# Altium footprint library ic.PcbLib: 38 footprints (part 1 of 3)
Each footprint in its own frame and in the unit in brackets; x right, y up, seen from the top. Pads: shape width x height; smd on the part's side, far side on the other; paste and mask are expansions set on the pad; w line width, h text height; cw(c..) or ccw(c..) is an arc to the next point about the centre after c.
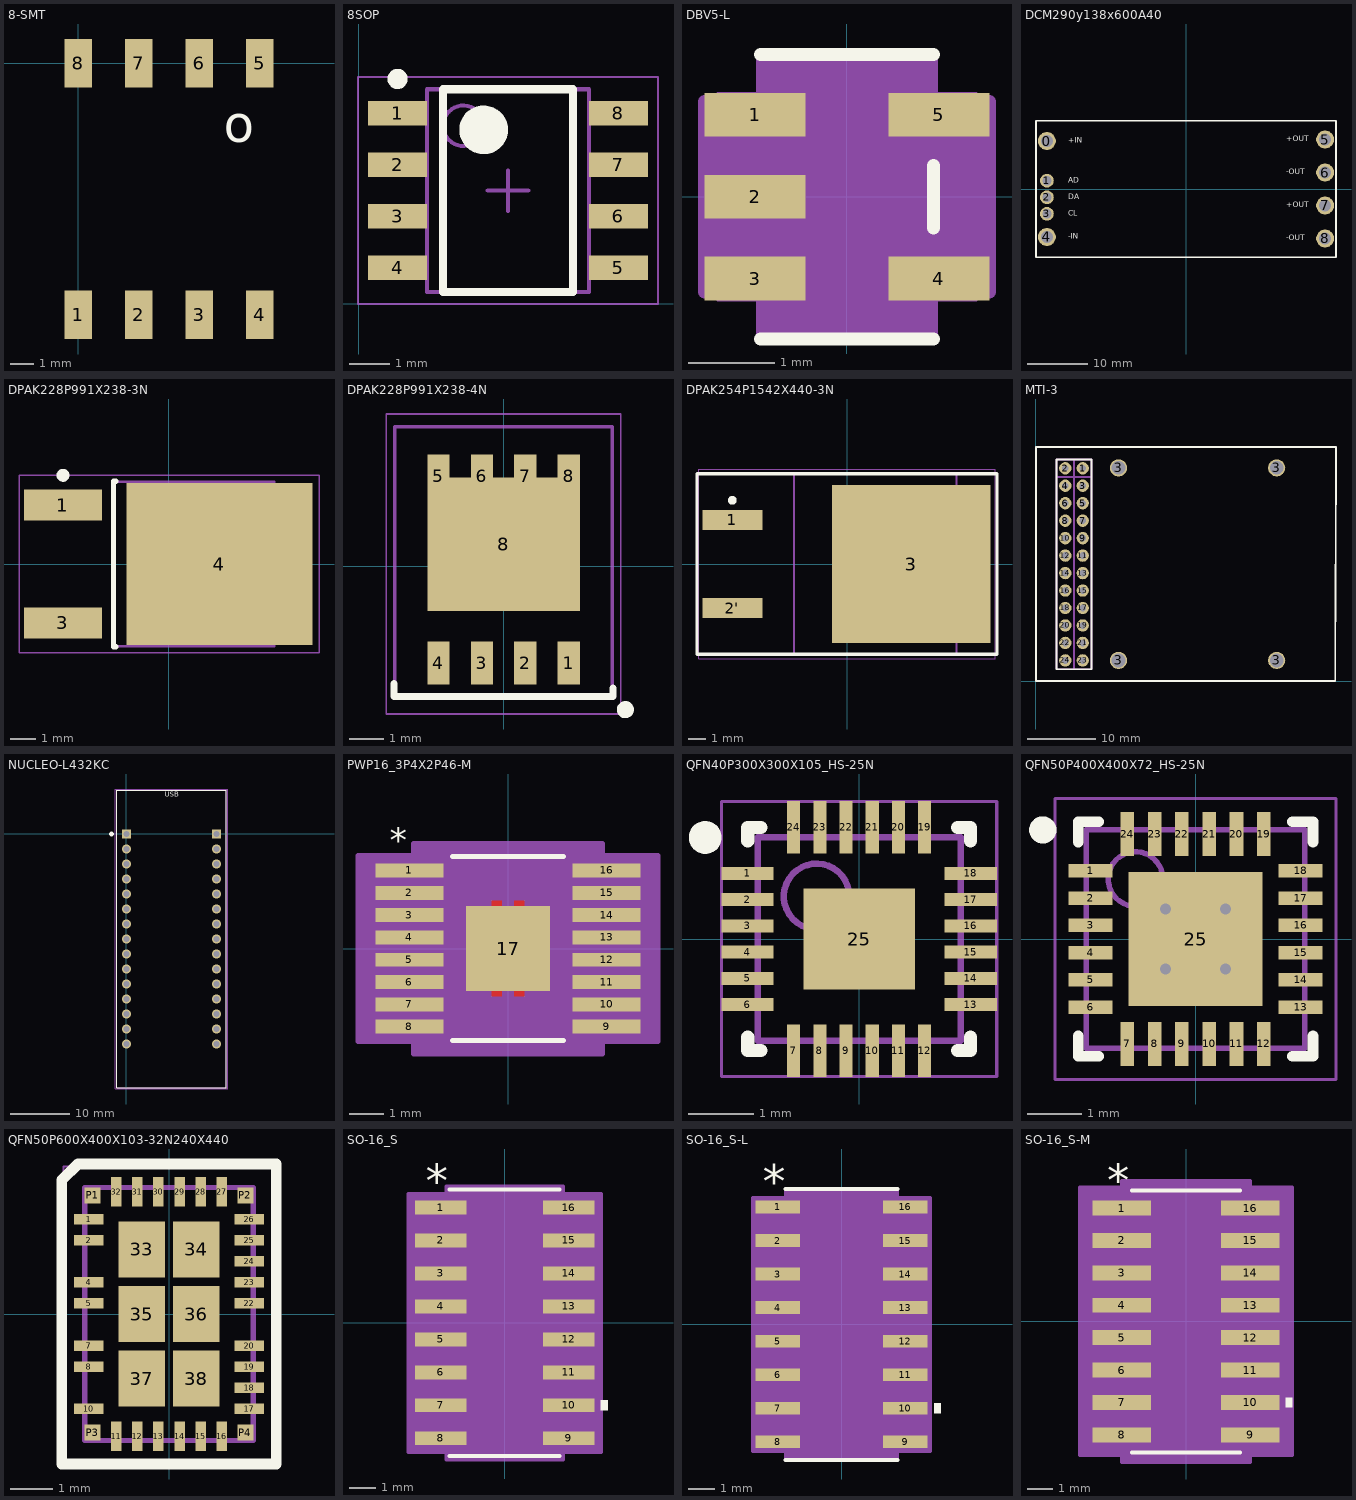
[diagram p0: the footprints below, top view; thin cyan lines are the x and y axes]

## 8-SMT [mm]
height 5.44
pads (8):
  rect 1.15x2.04 smd: 1(0,-10.54) 2(2.54,-10.54) 3(5.08,-10.54) 4(7.62,-10.54) 5(7.62,0) 6(5.08,0) 7(2.54,0) 8(0,0)
Top Overlay:
  text "o" at 6.1,-3.3 h1.52
3D body "P3EL-P-008-I2CPressureSensorPCBONLY.prt.stp": height 5.44, standoff 0, extent -1.353,-12 8.553,1.462

## 8SOP [mm]
pads (8):
  rect 1.45x0.6 smd: 1(0.958,4.699) 2(0.958,3.429) 3(0.958,2.159) 4(0.958,0.889) 5(6.408,0.889) 6(6.408,2.159) 7(6.408,3.429) 8(6.408,4.699)
Top Overlay:
  circle w0.25: c0.958,5.549 r0.125
  circle w0.6: c3.083,4.294 r0.3
  lines w0.2: 2.083,0.294 2.083,5.294 5.283,5.294 5.283,0.294 2.083,0.294
Mechanical 13:
  circle w0.1: c2.583,4.394 r0.5
  lines w0.1: 1.683,0.294 1.683,5.294 5.683,5.294 5.683,0.294 1.683,0.294
Mechanical 15:
  lines w0.05: -0.017,-0.006 -0.017,5.594 7.383,5.594 7.383,-0.006 -0.017,-0.006
  lines w0.1: 3.183,2.794 4.183,2.794 ; 3.683,2.294 3.683,3.294
3D body "SOP127P600X175_HS-9N.step": height 1.75, standoff 0, extent 0.689,0.294 6.677,5.294

## DBV5-L [mil]
pads (5):
  rect 46x20 smd paste+0 mask+0: 1(-42,37.4) 2(-42,0) 3(-42,-37.4) 4(42,-37.4) 5(42,37.4)
Top Overlay:
  lines w6: -39.5,-65 39.5,-65 ; -39.5,65 39.5,65 ; 39.5,-14.3 39.5,14.3
Mechanical 13:
  lines w0: -12,60 ccw(c0,60) 12,60
  lines w1: -59,-47.4 -34.5,-47.4 -34.5,-27.4 -59,-27.4 -59,-47.4 ; -59,-10 -34.5,-10 -34.5,10 -59,10 -59,-10 ; -59,27.4 -34.5,27.4 -34.5,47.4 -59,47.4 -59,27.4 ; -34.5,-60 -34.5,60 34.5,60 34.5,-60 -34.5,-60 ; 34.5,-47.4 59,-47.4 59,-27.4 34.5,-27.4 34.5,-47.4 ; 34.5,27.4 59,27.4 59,47.4 34.5,47.4 34.5,27.4
  text "*" at -37,14.4 h50
Mechanical 15:
  region: 38.5,-64 -38.5,-64 -38.5,-43.4 -65,-43.4 -65,43.4 -38.5,43.4 -38.5,64 38.5,64 38.5,43.4 65,43.4 65,-43.4 38.5,-43.4
  lines w6: -65,-43.4 -65,43.4 -38.5,43.4 -38.5,64 38.5,64 38.5,43.4 65,43.4 65,-43.4 38.5,-43.4 38.5,-64 -38.5,-64 -38.5,-43.4 -65,-43.4
3D body: height 10, standoff 0, extent 0,0 10,10
3D body "DBV5-L.stp": height 57.09, standoff 0, extent -59.01,-59.99 59.02,60.01

## DCM290y138x600A40 [mm]
pads (9):
  round 3 hole 2.03: 0(-23.19,8) 4(-23.19,-8) 5(23.19,8.25) 6(23.19,2.75) 7(23.19,-2.75) 8(23.19,-8.25)
  round 2.3 hole 1.52: 1(-23.19,1.38) 2(-23.19,-1.38) 3(-23.19,-4.13)
Top Overlay:
  lines w0.254: -25,-11.4 25,-11.4 25,11.4 -25,11.4 -25,-11.4
  text "+IN" at -19.66,7.339 h1.52
  text "AD" at -19.66,0.719 h1.52
  text "DA" at -19.66,-2.041 h1.52
  text "CL" at -19.66,-4.791 h1.52
  text "-IN" at -19.66,-8.661 h1.52
  text "-OUT" at 16.739,-8.911 h1.52
  text "+OUT" at 16.739,-3.411 h1.52
  text "-OUT" at 16.739,2.089 h1.52
  text "+OUT" at 16.739,7.589 h1.52
3D body: height 8.16, standoff 0, extent -25.019,-11.405 25.019,11.43

## DPAK228P991X238-3N [mm] "D-PAK, 3-Pads, Body 6.21x6.54mm (max), IPC Medium Density"
height 2.38
pads (3):
  rect 3x1.2 smd: 1(-4.1,2.28) 3(-4.1,-2.28)
  rect 7.2x6.25 smd: 4(1.95,0)
Top Overlay:
  circle w0.25: c-4.1,3.43 r0.125
  lines w0.2: -2.05,-3.2 -2.15,-3.2 -2.15,3.2 -2.05,3.2
Mechanical 13:
  lines w0.1: -2.15,-3.175 4.07,-3.175 4.07,3.175 -2.15,3.175 -2.15,-3.175
Mechanical 15:
  lines w0.05: -5.8,-3.425 5.8,-3.425 5.8,3.425 -5.8,3.425 -5.8,-3.425
  lines w0.1: -0.5,0 0.5,0 ; 0,-0.5 0,0.5
3D body "DPAK228P991X238-3N.step": height 2.51, standoff 0, extent -4.826,-3.175 5.079,3.175

## DPAK228P991X238-4N [mm] "D-PAK, 4-Pads, Body 6.21x6.54mm (max), IPC Medium Density"
height 2.38
pads (9):
  rect 0.65x1.25 smd: 1(1.905,-2.83) 2(0.635,-2.83) 3(-0.635,-2.83) 4(-1.905,-2.83) 5(-1.905,2.631) 6(-0.635,2.631) 7(0.635,2.631) 8(1.905,2.631)
  rect 4.45x3.9 smd: 8(0,0.635)
Top Overlay:
  circle w0.25: c3.556,-4.191 r0.125
  lines w0.2: -3.2,-3.429 -3.2,-3.81 3.2,-3.81 3.2,-3.556
Mechanical 13:
  lines w0.1: -3.175,-3.81 -3.175,4.07 3.175,4.07 3.175,-3.81 -3.175,-3.81
Mechanical 15:
  lines w0.05: -3.425,-4.318 -3.425,4.445 3.425,4.445 3.425,-4.318 -3.425,-4.318
  lines w0.1: -0.5,0 0.5,0 ; 0,-0.5 0,0.5
3D body: height 1.45, standoff 0, extent -2.286,-2.794 2.286,2.921

## DPAK254P1542X440-3N [mm] "D2-PAK, 3-Pads, Body 7.78x8.56mm (max), IPC Medium Density"
height 4.4
pads (3):
  rect 3.45x1.15 smd: 1(-6.6,2.54) 2'(-6.6,-2.54)
  rect 9.1x9.1 smd: 3(3.7,0)
Top Overlay:
  circle w0.25: c-6.6,3.665 r0.125
  lines w0.2: -8.636,-5.2 8.636,-5.2 8.636,5.2 -8.636,5.2 -8.636,-5.2
Mechanical 13:
  lines w0.1: -3.05,-5.2 6.3,-5.2 6.3,5.2 -3.05,5.2 -3.05,-5.2
Mechanical 15:
  lines w0.05: -8.525,-5.45 8.525,-5.45 8.525,5.45 -8.525,5.45 -8.525,-5.45
  lines w0.1: -0.5,0 0.5,0 ; 0,-0.5 0,0.5
3D body "DPAK254P1542X440-3N.step": height 4.4, standoff 0, extent -7.275,-5.2 8.15,5.2

## MTI-3 [mm] "PinHeader 2x12 TH Pitch 2.54mm"
height 9.5
pads (28):
  round 1.8 hole 1: 1(6.858,30.988) 2(4.318,30.988) 3(6.858,28.448) 4(4.318,28.448) 5(6.858,25.908) 6(4.318,25.908) 7(6.858,23.368) 8(4.318,23.368) 9(6.858,20.828) 10(4.318,20.828) 11(6.858,18.288) 12(4.318,18.288) 13(6.858,15.748) 14(4.318,15.748) 15(6.858,13.208) 16(4.318,13.208) 17(6.858,10.668) 18(4.318,10.668) 19(6.858,8.128) 20(4.318,8.128) 21(6.858,5.588) 22(4.318,5.588) 23(6.858,3.048) 24(4.318,3.048)
  round 2.5 hole 2: 3(12.061,3.048) 3(12.061,31.048) 3(35.061,3.048) 3(35.061,31.048)
Top Overlay:
  lines w0.254: 0.061,34.048 0.061,0.048 43.561,0.048 ; 0.061,34.084 43.688,34.084 43.562,0.084 ; 3.048,29.718 3.048,32.258 ; 3.048,32.258 5.588,32.258 8.128,32.258 8.128,1.778 5.588,1.778 3.048,1.778 3.048,32.258
Mechanical 3:
  lines w0.254: 8.128,29.718 5.588,29.718 ; 3.048,32.258 3.048,29.718 5.588,29.718 ; 3.048,32.258 5.588,32.258 ; 3.048,32.258 3.048,1.778 5.588,1.778 ; 5.588,1.778 5.588,32.258 ; 5.588,1.778 5.588,32.258 ; 5.588,1.778 8.128,1.778 8.128,32.258 5.588,32.258 ; 5.588,29.718 5.588,32.258
3D body "Pin Header 1x12 TH Pitch 2.54mm.stp": height 9.5, standoff -3.2, extent 3.048,1.778 5.588,32.258
3D body "Pin Header 1x12 TH Pitch 2.54mm.stp": height 9.5, standoff -3.2, extent 5.588,1.778 8.128,32.258

## NUCLEO-L432KC [mm]
pads (30):
  rect 1.53x1.53 hole 1.02: 3.1(0,0) 4.1(15.24,0)
  round 1.53 hole 1.02: 3.2(0,-2.54) 3.3(0,-5.08) 3.4(0,-7.62) 3.5(0,-10.16) 3.6(0,-12.7) 3.7(0,-15.24) 3.8(0,-17.78) 3.9(0,-20.32) 3.10(0,-22.86) 3.11(0,-25.4) 3.12(0,-27.94) 3.13(0,-30.48) 3.14(0,-33.02) 3.15(0,-35.56) 4.2(15.24,-2.54) 4.3(15.24,-5.08) 4.4(15.24,-7.62) 4.5(15.24,-10.16) 4.6(15.24,-12.7) 4.7(15.24,-15.24) 4.8(15.24,-17.78) 4.9(15.24,-20.32) 4.10(15.24,-22.86) 4.11(15.24,-25.4) 4.12(15.24,-27.94) 4.13(15.24,-30.48) 4.14(15.24,-33.02) 4.15(15.24,-35.56)
Top Overlay:
  circle w0.4: c-2.54,0 r0.2
  lines w0.127: -1.65,-42.925 16.89,-42.925 16.89,7.365 -1.65,7.365 -1.65,-42.925
  text "USB" at 6.477,5.969 h1.52
Mechanical 4:
  lines w0.127: -1.65,-42.925 16.89,-42.925 ; -1.65,-42.925 -1.65,7.365 ; -1.65,-42.925 16.89,-42.925 ; -1.65,-42.925 -1.65,7.365 ; -1.65,7.365 16.89,7.365 ; -1.65,7.365 16.89,7.365 ; 16.89,-42.925 16.89,7.365 ; 16.89,-42.925 16.89,7.365
Mechanical 16:
  lines w0.05: -1.9,-43.175 17.14,-43.175 17.14,7.615 -1.9,7.615 -1.9,-43.175
3D body "stm32_black_pill.STEP": height 6.96, standoff -6.05, extent -5.134,-47.161 19.866,10.839

## PWP16_3P4X2P46-M [mil]
pads (17):
  rect 78x16 smd paste+0 mask+0: 1(-113,89.57) 2(-113,63.98) 3(-113,38.39) 4(-113,12.8) 5(-113,-12.8) 6(-113,-38.39) 7(-113,-63.98) 8(-113,-89.57) 9(113,-89.57) 10(113,-63.98) 11(113,-38.39) 12(113,-12.8) 13(113,12.8) 14(113,38.39) 15(113,63.98) 16(113,89.57)
  rect 96.85x97.64 smd paste+0 mask+0: 17(0,0)
Top Layer:
  region: 18.7,-48.82 6.89,-48.82 6.89,-54.72 18.7,-54.72
  region: -18.7,-48.82 -6.89,-48.82 -6.89,-54.72 -18.7,-54.72
  region: -18.7,48.82 -6.89,48.82 -6.89,54.72 -18.7,54.72
  region: 18.7,48.82 6.89,48.82 6.89,54.72 18.7,54.72
  region: 0,-48.82
  region: 0,48.82
Top Overlay:
  lines w6: -63.57,-105.5 63.57,-105.5 ; -63.57,105.5 63.57,105.5
  text "*" at -135.5,100.57 h50
Top Paste:
  region: 48.43,48.82 -48.43,48.82 -48.43,-48.82 48.43,-48.82
Top Solder:
  region: 18.7,-48.82 6.89,-48.82 6.89,-54.72 18.7,-54.72
  region: -18.7,-48.82 -6.89,-48.82 -6.89,-54.72 -18.7,-54.72
  region: -18.7,48.82 -6.89,48.82 -6.89,54.72 -18.7,54.72
  region: 18.7,48.82 6.89,48.82 6.89,54.72 18.7,54.72
  region: 0,-48.82
  region: 0,48.82
Mechanical 13:
  lines w0: -12,100.5 ccw(c0,100.5) 12,100.5
  lines w1: -130,-95.57 -88.5,-95.57 -88.5,-83.57 -130,-83.57 -130,-95.57 ; -130,-69.98 -88.5,-69.98 -88.5,-57.98 -130,-57.98 -130,-69.98 ; -130,-44.39 -88.5,-44.39 -88.5,-32.39 -130,-32.39 -130,-44.39 ; -130,-18.8 -88.5,-18.8 -88.5,-6.8 -130,-6.8 -130,-18.8 ; -130,6.8 -88.5,6.8 -88.5,18.8 -130,18.8 -130,6.8 ; -130,32.39 -88.5,32.39 -88.5,44.39 -130,44.39 -130,32.39 ; -130,57.98 -88.5,57.98 -88.5,69.98 -130,69.98 -130,57.98 ; -130,83.57 -88.5,83.57 -88.5,95.57 -130,95.57 -130,83.57 ; -88.5,-100.5 -88.5,100.5 88.5,100.5 88.5,-100.5 -88.5,-100.5 ; 88.5,-95.57 130,-95.57 130,-83.57 88.5,-83.57 88.5,-95.57 ; 88.5,-69.98 130,-69.98 130,-57.98 88.5,-57.98 88.5,-69.98 ; 88.5,-44.39 130,-44.39 130,-32.39 88.5,-32.39 88.5,-44.39 ; 88.5,-18.8 130,-18.8 130,-6.8 88.5,-6.8 88.5,-18.8 ; 88.5,6.8 130,6.8 130,18.8 88.5,18.8 88.5,6.8 ; 88.5,32.39 130,32.39 130,44.39 88.5,44.39 88.5,32.39 ; 88.5,57.98 130,57.98 130,69.98 88.5,69.98 88.5,57.98 ; 88.5,83.57 130,83.57 130,95.57 88.5,95.57 88.5,83.57
  text "*" at -91,55.57 h50
Mechanical 15:
  region: -108.5,-106.36 -172,-106.36 -172,106.36 -108.5,106.36 -108.5,120.5 108.5,120.5 108.5,106.36 172,106.36 172,-106.36 108.5,-106.36 108.5,-120.5 -108.5,-120.5
  lines w6: -172,-106.36 -108.5,-106.36 -108.5,-120.5 108.5,-120.5 108.5,-106.36 172,-106.36 172,106.36 108.5,106.36 108.5,120.5 -108.5,120.5 -108.5,106.36 -172,106.36 -172,-106.36
3D body: height 10, standoff 0, extent 0,0 10,10
3D body "PWP16_3P4X2P46-M.stp": height 67.09, standoff 0, extent -129.99,-100.5 130.01,100.52

## QFN40P300X300X105_HS-25N [mm] "QFN, 24-Leads, Body 3.00x3.00mm, Pitch 0.40mm, Thermal Pad 1.70x1.54mm, IPC Medium Density"
height 1.05
pads (25):
  rect 0.8x0.2 smd: 1(-1.704,1) 2(-1.704,0.6) 3(-1.704,0.2) 4(-1.704,-0.2) 5(-1.704,-0.6) 6(-1.704,-1) 13(1.704,-1) 14(1.704,-0.6) 15(1.704,-0.2) 16(1.704,0.2) 17(1.704,0.6) 18(1.704,1)
  rect 0.2x0.8 smd: 7(-1,-1.704) 8(-0.6,-1.704) 9(-0.2,-1.704) 10(0.2,-1.704) 11(0.6,-1.704) 12(1,-1.704) 19(1,1.704) 20(0.6,1.704) 21(0.2,1.704) 22(-0.2,1.704) 23(-0.6,1.704) 24(-1,1.704)
  rect 1.7x1.54 smd: 25(0,0)
Top Overlay:
  circle w0.25: c-2.35,1.55 r0.125
  lines w0.2: -1.7,-1.5 -1.7,-1.7 -1.5,-1.7 ; -1.7,1.5 -1.7,1.7 -1.5,1.7 ; 1.5,-1.7 1.7,-1.7 1.7,-1.5 ; 1.5,1.7 1.7,1.7 1.7,1.5
Mechanical 13:
  circle w0.1: c-0.65,0.65 r0.5
  lines w0.1: -1.55,-1.55 -1.55,1.55 1.55,1.55 1.55,-1.55 -1.55,-1.55
Mechanical 15:
  lines w0.05: -2.1,-2.1 -2.1,2.1 2.1,2.1 2.1,-2.1 -2.1,-2.1
  lines w0.1: -0.5,0 0.5,0 ; 0,-0.5 0,0.5
3D body "QFN40P300X300X105_HS-25N.step": height 1.05, standoff 0, extent -1.79,-1.79 1.79,1.79

## QFN50P400X400X72_HS-25N [mm] "QFN, 24-Leads, Body 4.00x4.00mm, Pitch 0.50mm, Thermal Pad 2.45x2.45mm, IPC Medium Density"
height 0.72
pads (25):
  rect 0.8x0.25 smd: 1(-1.925,1.25) 2(-1.925,0.75) 3(-1.925,0.25) 4(-1.925,-0.25) 5(-1.925,-0.75) 6(-1.925,-1.25) 13(1.925,-1.25) 14(1.925,-0.75) 15(1.925,-0.25) 16(1.925,0.25) 17(1.925,0.75) 18(1.925,1.25)
  rect 0.25x0.8 smd: 7(-1.25,-1.925) 8(-0.75,-1.925) 9(-0.25,-1.925) 10(0.25,-1.925) 11(0.75,-1.925) 12(1.25,-1.925) 19(1.25,1.925) 20(0.75,1.925) 21(0.25,1.925) 22(-0.25,1.925) 23(-0.75,1.925) 24(-1.25,1.925)
  rect 2.45x2.45 smd: 25(0,0)
via 0.55,-0.55 diameter 0.5 hole 0.2
via -0.55,-0.55 diameter 0.5 hole 0.2
via 0.55,0.55 diameter 0.5 hole 0.2
via -0.55,0.55 diameter 0.5 hole 0.2
Top Overlay:
  circle w0.25: c-2.8,2 r0.125
  lines w0.2: -2.15,-1.775 -2.15,-2.15 -1.775,-2.15 ; -2.15,1.775 -2.15,2.15 -1.775,2.15 ; 1.775,-2.15 2.15,-2.15 2.15,-1.775 ; 1.775,2.15 2.15,2.15 2.15,1.775
Mechanical 13:
  circle w0.1: c-1.1,1.1 r0.5
  lines w0.1: -2,-2 2,-2 2,2 -2,2 -2,-2
Mechanical 15:
  lines w0.05: -2.575,-2.575 2.575,-2.575 2.575,2.575 -2.575,2.575 -2.575,-2.575
  lines w0.1: -0.5,0 0.5,0 ; 0,-0.5 0,0.5
3D body "QFN50P400X400X72_HS-25N.step": height 0.72, standoff 0, extent -2.24,-2.24 2.24,2.24

## QFN50P600X400X103-32N240X440 [mm]
pads (38):
  rect 0.7x0.25 smd: 1(-1.9,2.25) 2(-1.9,1.75) 4(-1.9,0.75) 5(-1.9,0.25) 7(-1.9,-0.75) 8(-1.9,-1.25) 10(-1.9,-2.25) 17(1.9,-2.25) 18(1.9,-1.75) 19(1.9,-1.25) 20(1.9,-0.75) 22(1.9,0.25) 23(1.9,0.75) 24(1.9,1.25) 25(1.9,1.75) 26(1.9,2.25)
  rect 0.25x0.7 smd: 11(-1.25,-2.9) 12(-0.75,-2.9) 13(-0.25,-2.9) 14(0.25,-2.9) 15(0.75,-2.9) 16(1.25,-2.9) 27(1.25,2.9) 28(0.75,2.9) 29(0.25,2.9) 30(-0.25,2.9) 31(-0.75,2.9) 32(-1.25,2.9)
  rect 1.1x1.33 smd: 33(-0.65,1.53) 34(0.65,1.53) 35(-0.65,0) 36(0.65,0) 37(-0.65,-1.53) 38(0.65,-1.53)
  rect 0.375x0.375 smd: P1(-1.813,2.812) P2(1.813,2.812) P3(-1.813,-2.812) P4(1.813,-2.812)
Top Overlay:
  lines w0.254: -2.54,-3.556 -2.54,3.175 -2.159,3.556 2.54,3.556 2.54,-3.556 -2.54,-3.556
Top Paste:
  region: -1.003,0.425 -0.3,0.425 -0.3,-0.426 -1.003,-0.426
  region: -1.004,1.955 -0.3,1.955 -0.3,1.109 -1.004,1.109
  region: -1.002,-1.105 -0.3,-1.105 -0.3,-1.96 -1.002,-1.96
  region: 0.3,0.425 1,0.425 1,-0.426 0.3,-0.426
  region: 0.301,1.955 1,1.955 1,1.109 0.301,1.109
  region: 0.3,-1.105 1,-1.105 1,-1.958 0.3,-1.958
Mechanical 1:
  lines w0.127: -2,-3 2,-3 2,3 -2,3 -2,-3
Mechanical 4:
  lines w0.05: -2.5,-3.5 2.5,-3.5 2.5,3.5 -2.5,3.5 -2.5,-3.5
3D body: height 0.94, standoff 0, extent -2,-3 2,3

## SO-16_S [mil]
pads (16):
  rect 78x21 smd paste+0 mask+0: 1(-97,175) 2(-97,125) 3(-97,75) 4(-97,25) 5(-97,-25) 6(-97,-75) 7(-97,-125) 8(-97,-175) 9(97,-175) 10(97,-125) 11(97,-75) 12(97,-25) 13(97,25) 14(97,75) 15(97,125) 16(97,175)
Top Overlay:
  region: 146,-117.5 156,-117.5 156,-132.5 146,-132.5
  lines w6: -83.5,-202 83.5,-202 ; -83.5,202 83.5,202
  text "*" at -119.5,191 h50
Mechanical 13:
  lines w0: -12,197 ccw(c0,197) 12,197
  lines w1: -122,-184.5 -122,-165.5 -78.5,-165.5 -78.5,-184.5 -122,-184.5 ; -122,-134.5 -122,-115.5 -78.5,-115.5 -78.5,-134.5 -122,-134.5 ; -122,-84.5 -122,-65.5 -78.5,-65.5 -78.5,-84.5 -122,-84.5 ; -122,-34.5 -122,-15.5 -78.5,-15.5 -78.5,-34.5 -122,-34.5 ; -122,15.5 -122,34.5 -78.5,34.5 -78.5,15.5 -122,15.5 ; -122,65.5 -122,84.5 -78.5,84.5 -78.5,65.5 -122,65.5 ; -122,115.5 -122,134.5 -78.5,134.5 -78.5,115.5 -122,115.5 ; -122,165.5 -122,184.5 -78.5,184.5 -78.5,165.5 -122,165.5 ; -78.5,-197 78.5,-197 78.5,197 -78.5,197 -78.5,-197 ; 78.5,-184.5 78.5,-165.5 122,-165.5 122,-184.5 78.5,-184.5 ; 78.5,-134.5 78.5,-115.5 122,-115.5 122,-134.5 78.5,-134.5 ; 78.5,-84.5 78.5,-65.5 122,-65.5 122,-84.5 78.5,-84.5 ; 78.5,-34.5 78.5,-15.5 122,-15.5 122,-34.5 78.5,-34.5 ; 78.5,15.5 78.5,34.5 122,34.5 122,15.5 78.5,15.5 ; 78.5,65.5 78.5,84.5 122,84.5 122,65.5 78.5,65.5 ; 78.5,115.5 78.5,134.5 122,134.5 122,115.5 78.5,115.5 ; 78.5,165.5 78.5,184.5 122,184.5 122,165.5 78.5,165.5
  text "*" at -76,144 h50
Mechanical 15:
  region: -88.5,-195.5 -146,-195.5 -146,195.5 -88.5,195.5 -88.5,207 88.5,207 88.5,195.5 146,195.5 146,-195.5 88.5,-195.5 88.5,-207 -88.5,-207
  lines w6: -146,-195.5 -146,195.5 -88.5,195.5 -88.5,207 88.5,207 88.5,195.5 146,195.5 146,-195.5 88.5,-195.5 88.5,-207 -88.5,-207 -88.5,-195.5 -146,-195.5
3D body: height 10, standoff 0, extent 0,0 10,10

## SO-16_S-L [mil]
pads (16):
  rect 66x19 smd paste+0 mask+0: 1(-95,175) 2(-95,125) 3(-95,75) 4(-95,25) 5(-95,-25) 6(-95,-75) 7(-95,-125) 8(-95,-175) 9(95,-175) 10(95,-125) 11(95,-75) 12(95,-25) 13(95,25) 14(95,75) 15(95,125) 16(95,175)
Top Overlay:
  region: 138,-117.5 148,-117.5 148,-132.5 138,-132.5
  lines w6: -83.5,-202 83.5,-202 ; -83.5,202 83.5,202
  text "*" at -117.5,189 h50
Mechanical 13:
  lines w0: -12,197 ccw(c0,197) 12,197
  lines w1: -122,-184.5 -122,-165.5 -78.5,-165.5 -78.5,-184.5 -122,-184.5 ; -122,-134.5 -122,-115.5 -78.5,-115.5 -78.5,-134.5 -122,-134.5 ; -122,-84.5 -122,-65.5 -78.5,-65.5 -78.5,-84.5 -122,-84.5 ; -122,-34.5 -122,-15.5 -78.5,-15.5 -78.5,-34.5 -122,-34.5 ; -122,15.5 -122,34.5 -78.5,34.5 -78.5,15.5 -122,15.5 ; -122,65.5 -122,84.5 -78.5,84.5 -78.5,65.5 -122,65.5 ; -122,115.5 -122,134.5 -78.5,134.5 -78.5,115.5 -122,115.5 ; -122,165.5 -122,184.5 -78.5,184.5 -78.5,165.5 -122,165.5 ; -78.5,-197 78.5,-197 78.5,197 -78.5,197 -78.5,-197 ; 78.5,-184.5 78.5,-165.5 122,-165.5 122,-184.5 78.5,-184.5 ; 78.5,-134.5 78.5,-115.5 122,-115.5 122,-134.5 78.5,-134.5 ; 78.5,-84.5 78.5,-65.5 122,-65.5 122,-84.5 78.5,-84.5 ; 78.5,-34.5 78.5,-15.5 122,-15.5 122,-34.5 78.5,-34.5 ; 78.5,15.5 78.5,34.5 122,34.5 122,15.5 78.5,15.5 ; 78.5,65.5 78.5,84.5 122,84.5 122,65.5 78.5,65.5 ; 78.5,115.5 78.5,134.5 122,134.5 122,115.5 78.5,115.5 ; 78.5,165.5 78.5,184.5 122,184.5 122,165.5 78.5,165.5
  text "*" at -76,144 h50
Mechanical 15:
  region: -82.5,-188.5 -132,-188.5 -132,188.5 -82.5,188.5 -82.5,201 82.5,201 82.5,188.5 132,188.5 132,-188.5 82.5,-188.5 82.5,-201 -82.5,-201
  lines w6: -132,-188.5 -132,188.5 -82.5,188.5 -82.5,201 82.5,201 82.5,188.5 132,188.5 132,-188.5 82.5,-188.5 82.5,-201 -82.5,-201 -82.5,-188.5 -132,-188.5
3D body: height 10, standoff 0, extent 0,0 10,10

## SO-16_S-M [mil]
pads (16):
  rect 90x23 smd paste+0 mask+0: 1(-99,175) 2(-99,125) 3(-99,75) 4(-99,25) 5(-99,-25) 6(-99,-75) 7(-99,-125) 8(-99,-175) 9(99,-175) 10(99,-125) 11(99,-75) 12(99,-25) 13(99,25) 14(99,75) 15(99,125) 16(99,175)
Top Overlay:
  region: 154,-117.5 164,-117.5 164,-132.5 154,-132.5
  lines w6: -83.5,-202 83.5,-202 ; -83.5,202 83.5,202
  text "*" at -121.5,193 h50
Mechanical 13:
  lines w0: -12,197 ccw(c0,197) 12,197
  lines w1: -122,-184.5 -122,-165.5 -78.5,-165.5 -78.5,-184.5 -122,-184.5 ; -122,-134.5 -122,-115.5 -78.5,-115.5 -78.5,-134.5 -122,-134.5 ; -122,-84.5 -122,-65.5 -78.5,-65.5 -78.5,-84.5 -122,-84.5 ; -122,-34.5 -122,-15.5 -78.5,-15.5 -78.5,-34.5 -122,-34.5 ; -122,15.5 -122,34.5 -78.5,34.5 -78.5,15.5 -122,15.5 ; -122,65.5 -122,84.5 -78.5,84.5 -78.5,65.5 -122,65.5 ; -122,115.5 -122,134.5 -78.5,134.5 -78.5,115.5 -122,115.5 ; -122,165.5 -122,184.5 -78.5,184.5 -78.5,165.5 -122,165.5 ; -78.5,-197 78.5,-197 78.5,197 -78.5,197 -78.5,-197 ; 78.5,-184.5 78.5,-165.5 122,-165.5 122,-184.5 78.5,-184.5 ; 78.5,-134.5 78.5,-115.5 122,-115.5 122,-134.5 78.5,-134.5 ; 78.5,-84.5 78.5,-65.5 122,-65.5 122,-84.5 78.5,-84.5 ; 78.5,-34.5 78.5,-15.5 122,-15.5 122,-34.5 78.5,-34.5 ; 78.5,15.5 78.5,34.5 122,34.5 122,15.5 78.5,15.5 ; 78.5,65.5 78.5,84.5 122,84.5 122,65.5 78.5,65.5 ; 78.5,115.5 78.5,134.5 122,134.5 122,115.5 78.5,115.5 ; 78.5,165.5 78.5,184.5 122,184.5 122,165.5 78.5,165.5
  text "*" at -76,144 h50
Mechanical 15:
  region: -98.5,-206.5 -164,-206.5 -164,206.5 -98.5,206.5 -98.5,217 98.5,217 98.5,206.5 164,206.5 164,-206.5 98.5,-206.5 98.5,-217 -98.5,-217
  lines w6: -164,-206.5 -164,206.5 -98.5,206.5 -98.5,217 98.5,217 98.5,206.5 164,206.5 164,-206.5 98.5,-206.5 98.5,-217 -98.5,-217 -98.5,-206.5 -164,-206.5
3D body: height 10, standoff 0, extent 0,0 10,10